# Altium schematic symbol library jlcUser.SchLib: 3 symbols
Pins are listed as number, name and electrical type; pins without a type are passive.

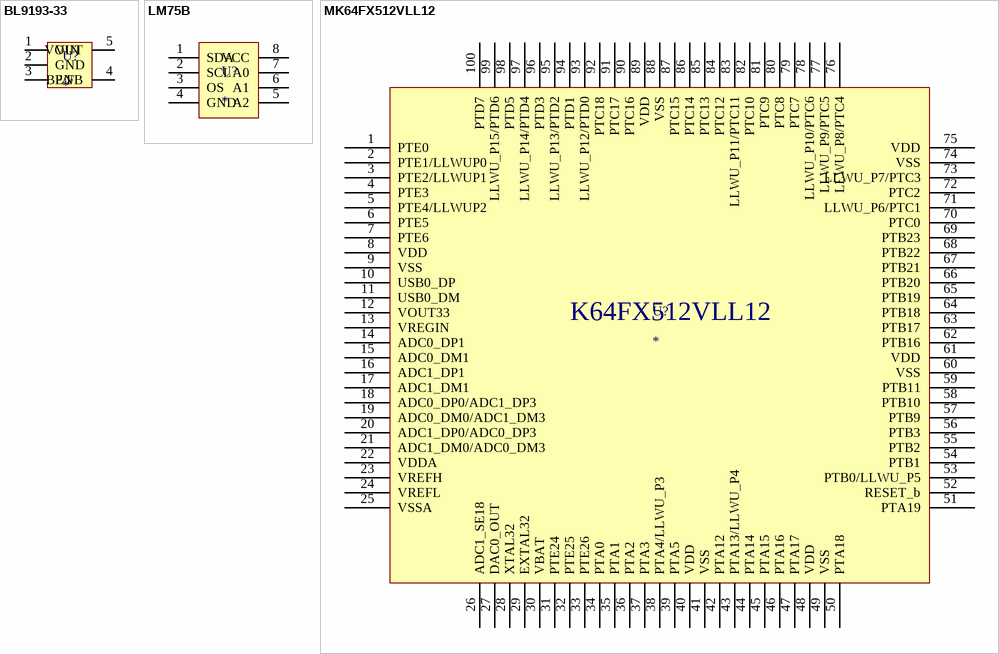
[diagram p0: symbols BL9193-33 to MK64FX512VLL12]

## BL9193-33
designator U?
footprint LC-SOT-23-5 (BL9193)
pins: 1 VIN, 2 GND, 3 EN, 4 BP/FB, 5 VOUT

## LM75B
designator U?
footprint LC-SOIC-8_150mil
pins: 1 SDA, 2 SCL, 3 OS, 4 GND, 5 A2, 6 A1, 7 A0, 8 VCC

## MK64FX512VLL12
designator U?
footprint LC-LQFP-100_14x14x05P
pins: 1 PTE0, 2 PTE1/LLWUP0, 3 PTE2/LLWUP1, 4 PTE3, 5 PTE4/LLWUP2, 6 PTE5, 7 PTE6, 8 VDD, 9 VSS, 10 USB0_DP, 11 USB0_DM, 12 VOUT33, 13 VREGIN, 14 ADC0_DP1, 15 ADC0_DM1, 16 ADC1_DP1, 17 ADC1_DM1, 18 ADC0_DP0/ADC1_DP3, 19 ADC0_DM0/ADC1_DM3, 20 ADC1_DP0/ADC0_DP3, 21 ADC1_DM0/ADC0_DM3, 22 VDDA, 23 VREFH, 24 VREFL, 25 VSSA, 26 ADC1_SE18, 27 DAC0_OUT, 28 XTAL32, 29 EXTAL32, 30 VBAT, 31 PTE24, 32 PTE25, 33 PTE26, 34 PTA0, 35 PTA1, 36 PTA2, 37 PTA3, 38 PTA4/LLWU_P3, 39 PTA5, 40 VDD, 41 VSS, 42 PTA12, 43 PTA13/LLWU_P4, 44 PTA14, 45 PTA15, 46 PTA16, 47 PTA17, 48 VDD, 49 VSS, 50 PTA18, 51 PTA19, 52 RESET_b, 53 PTB0/LLWU_P5, 54 PTB1, 55 PTB2, 56 PTB3, 57 PTB9, 58 PTB10, 59 PTB11, 60 VSS, 61 VDD, 62 PTB16, 63 PTB17, 64 PTB18, 65 PTB19, 66 PTB20, 67 PTB21, 68 PTB22, 69 PTB23, 70 PTC0, 71 LLWU_P6/PTC1, 72 PTC2, 73 LLWU_P7/PTC3, 74 VSS, 75 VDD, 76 LLWU_P8/PTC4, 77 LLWU_P9/PTC5, 78 LLWU_P10/PTC6, 79 PTC7, 80 PTC8, 81 PTC9, 82 PTC10, 83 LLWU_P11/PTC11, 84 PTC12, 85 PTC13, 86 PTC14, 87 PTC15, 88 VSS, 89 VDD, 90 PTC16, 91 PTC17, 92 PTC18, 93 LLWU_P12/PTD0, 94 PTD1, 95 LLWU_P13/PTD2, 96 PTD3, 97 LLWU_P14/PTD4, 98 PTD5, 99 LLWU_P15/PTD6, 100 PTD7
text: K64FX512VLL12